# EAGLE library part 87368-24 (library untitled)
RECEPTACAL
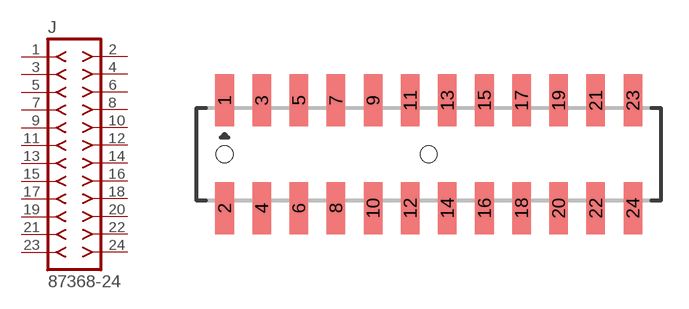
[diagram p191: symbol with the pads of 87368-24; footprint 87368-24]

Designator prefix J

## 87368-24  [87368-24]
1  1  pas
2  2  pas
3  3  pas
4  4  pas
5  5  pas
6  6  pas
7  7  pas
8  8  pas
9  9  pas
10  10  pas
11  11  pas
12  12  pas
13  13  pas
14  14  pas
15  15  pas
16  16  pas
17  17  pas
18  18  pas
19  19  pas
20  20  pas
21  21  pas
22  22  pas
23  23  pas
24  24  pas

## Footprint 87368-24 (pad centres in mm)
RECEPTACAL SMD Dual Row, Side Entry
smd 1 x 2.8: 1 -11,2.9; 2 -11,-2.9; 3 -9,2.9; 4 -9,-2.9; 5 -7,2.9; 6 -7,-2.9; 7 -5,2.9; 8 -5,-2.9; 9 -3,2.9; 10 -3,-2.9; 11 -1,2.9; 12 -1,-2.9; 13 1,2.9; 14 1,-2.9; 15 3,2.9; 16 3,-2.9; 17 5,2.9; 18 5,-2.9; 19 7,2.9; 20 7,-2.9; 21 9,2.9; 22 9,-2.9; 23 11,2.9; 24 11,-2.9
hole 0.914 at -11,0
hole 0.914 at 0,0